# Altium footprint library 43860-0002.PcbLib: 1 footprints
Each footprint in its own frame and in the unit in brackets; x right, y up, seen from the top. Pads: shape width x height; smd on the part's side, far side on the other; paste and mask are expansions set on the pad; w line width, h text height; cw(c..) or ccw(c..) is an arc to the next point about the centre after c.
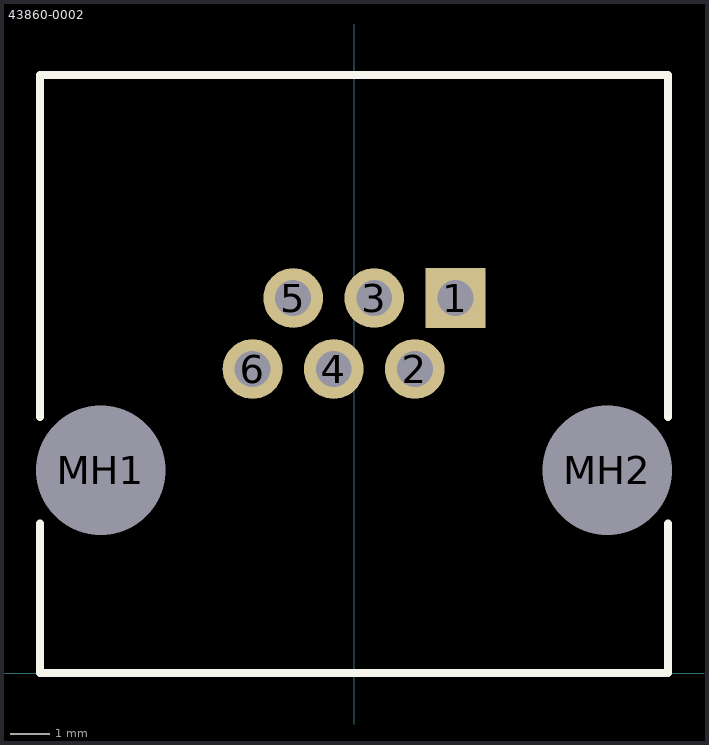
[diagram p0: the footprint, top view; thin cyan lines are the x and y axes]

## 43860-0002 [mm] "Connector; PCB Jack, Thru-Hole; 1-Port, 6 Positions, 6 Loaded; Unshielded without Lightpipes; Right Angle"
height 13.21
pads (8):
  rect 1.5x1.5 hole 0.9: 1(2.54,9.398)
  round 1.5 hole 0.9: 2(1.524,7.62) 3(0.508,9.398) 4(-0.508,7.62) 5(-1.524,9.398) 6(-2.54,7.62)
  round 2.95 hole 3.25 unplated: MH1(-6.35,5.08) MH2(6.35,5.08)
Top Overlay:
  lines w0.2: -7.875,3.748 -7.875,0 7.875,0 7.875,3.748 ; -7.875,6.412 -7.875,14.99 7.875,14.99 7.875,6.412
3D body: height 13.2, standoff -3.15, extent -7.938,0 7.874,14.986